# Altium integrated library Transistors.IntLib: 9 symbols
Pins are listed as number, name and electrical type; pins without a type are passive.

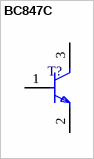
[diagram p0: symbol BC847C]

## BC847C
designator T?  (value not drawn)
footprint SOT23-3_IPC_A
pins: 1 B, 2 E, 3 C


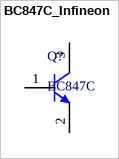
[diagram p1: symbol BC847C_Infineon]

## BC847C_Infineon
designator Q?, comment BC847C
NPN Silicon AF Transistor, 45 V VCEO, 100 mA IC, SOT23, Reel, Green; Manufacturer: Infineon; Ptot (max): 330Â mW; VEBO (max): 6Â V; IBM (max): 200Â mA; VCBO (max): 50Â V; Green: TRUE; fT (typ): 250Â MHz; VCEO (max): 45Â V; IC (max): 100Â mA; ICBO (max): 15Â nA; Polarity: NPN; PartNumber: BC847C; PackageVersion: Apr-08; ComponentLink1Description: Manufacturer URL; ComponentLink2Description: Datasheet; ComponentLink3URL: http://www.infineon.com/dgdl/SOT23-Package_Overview.pdf?folderId=db3a30431936bc4b0119532290053c66&fileId=db3a30431936bc4b0119533468123c85; ComponentLink3Description: Package Specification; ComponentLink1URL: http://www.infineon.com/; Packing: Reel; ComponentLink2URL: http://www.infineon.com/dgdl/bc847series_bc848series_bc849series_bc850series.pdf?folderId=db3a304314dca389011541d30fa21656&fileId=db3a304314dca389011541d4630a1657; ICM (max): 200Â mA; Mounting Technology: Surface Mount; PackageReference: SOT23; PackageDescription: 3-Pin Small Outline Transistor Package, 1.3 x 2.9 mm Body, 0.95 mm Pitch
footprint INF-SOT23_N
footprint INF-SOT23_L
footprint INF-SOT23_M
pins: 1 B, 2 E, 3 C


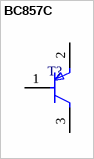
[diagram p2: symbol BC857C]

## BC857C
designator T?  (value not drawn)
footprint SOT23-3
pins: 1 B, 2 E, 3 C


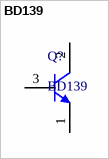
[diagram p3: symbol BD139]

## BD139
designator Q?
Plastic Medium-Power Silicon NPN Transistor, 3-Pin TO-225, Bulk Box; Manufacturer: On Semiconductor; IC Continuous (A): 1.5; Packing: Bulk Box; ComponentLink2URL: http://www.onsemi.com/pub_link/Collateral/BD135-D.PDF; ComponentLink2Description: Datasheet; ComponentLink1URL: http://www.onsemi.com/; Polarity: NPN; PartNumber: BD139; ComponentLink1Description: Manufacturer URL; RoHS: FALSE; ComponentLink3Description: Package Specification; PackageReference: TO-225-3-77-09; Mounting Technology: Through Hole; DatasheetVersion: Rev. 16; PackageDescription: 3-Pin Flange Mount, Vertical Straight Lead, Body 7.6 x 2.7 mm, Pitch 2.29 mm; PackageVersion: Rev. AC, 12/2013; ComponentLink3URL: http://www.onsemi.com/pub_link/Collateral/77-09.PDF
footprint TO-126(bend2)
pins: 1 E, 2 C, 3 B


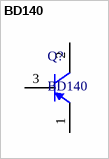
[diagram p4: symbol BD140]

## BD140
designator Q?
Plastic Medium-Power Silicon PNP Transistor, 3-Pin TO-225, Bulk Box; Manufacturer: On Semiconductor; IC Continuous (A): 1.5; PartNumber: BD140; ComponentLink1Description: Manufacturer URL; RoHS: FALSE; ComponentLink1URL: http://www.onsemi.com/; DatasheetVersion: Rev. 15; ComponentLink2URL: http://www.onsemi.com/pub_link/Collateral/BD136-D.PDF; ComponentLink3Description: Package Specification; Packing: Bulk Box; PackageVersion: Rev. AC, 12/2013; ComponentLink3URL: http://www.onsemi.com/pub_link/Collateral/77-09.PDF; PackageDescription: 3-Pin Flange Mount, Vertical Straight Lead, Body 7.6 x 2.7 mm, Pitch 2.29 mm; Mounting Technology: Through Hole; PackageReference: TO-225-3-77-09; ComponentLink2Description: Datasheet; Polarity: PNP
footprint TO-126(bend2)
pins: 1 E, 2 C, 3 B


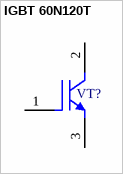
[diagram p5: symbol IGBT 60N120T]

## IGBT 60N120T
designator VT?  (value not drawn)
IGBT 60N120T TO-264-3
footprint TO-264-3
footprint TO-247
pins: 1 G, 2 C, 3 E


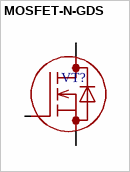
[diagram p6: symbol MOSFET-N-GDS]

## MOSFET-N-GDS
designator VT?
footprint TO-220(bend2)
footprint TO-220_Bended_Rad
footprint TO-220(bend1)
pins: 1 G, 2 D, 3 S


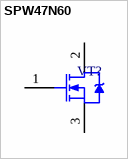
[diagram p7: symbol SPW47N60]

## SPW47N60
designator VT?  (value not drawn)
footprint TO-247-3(Infineon)
pins: 1 GATE, 2 DRAIN, 3 SOURCE


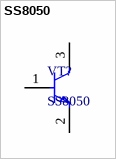
[diagram p8: symbol SS8050]

## SS8050
designator VT?
footprint FP-SS8050-G-IPC_A
footprint FP-SS8050-G-IPC_B
footprint FP-SS8050-G-IPC_C
footprint FP-SS8050-G-MFG
pins: 1 B, 2 E, 3 C